# Altium integrated library Integrated_Circuits.IntLib: 13 symbols
Pins are listed as number, name and electrical type; pins without a type are passive.

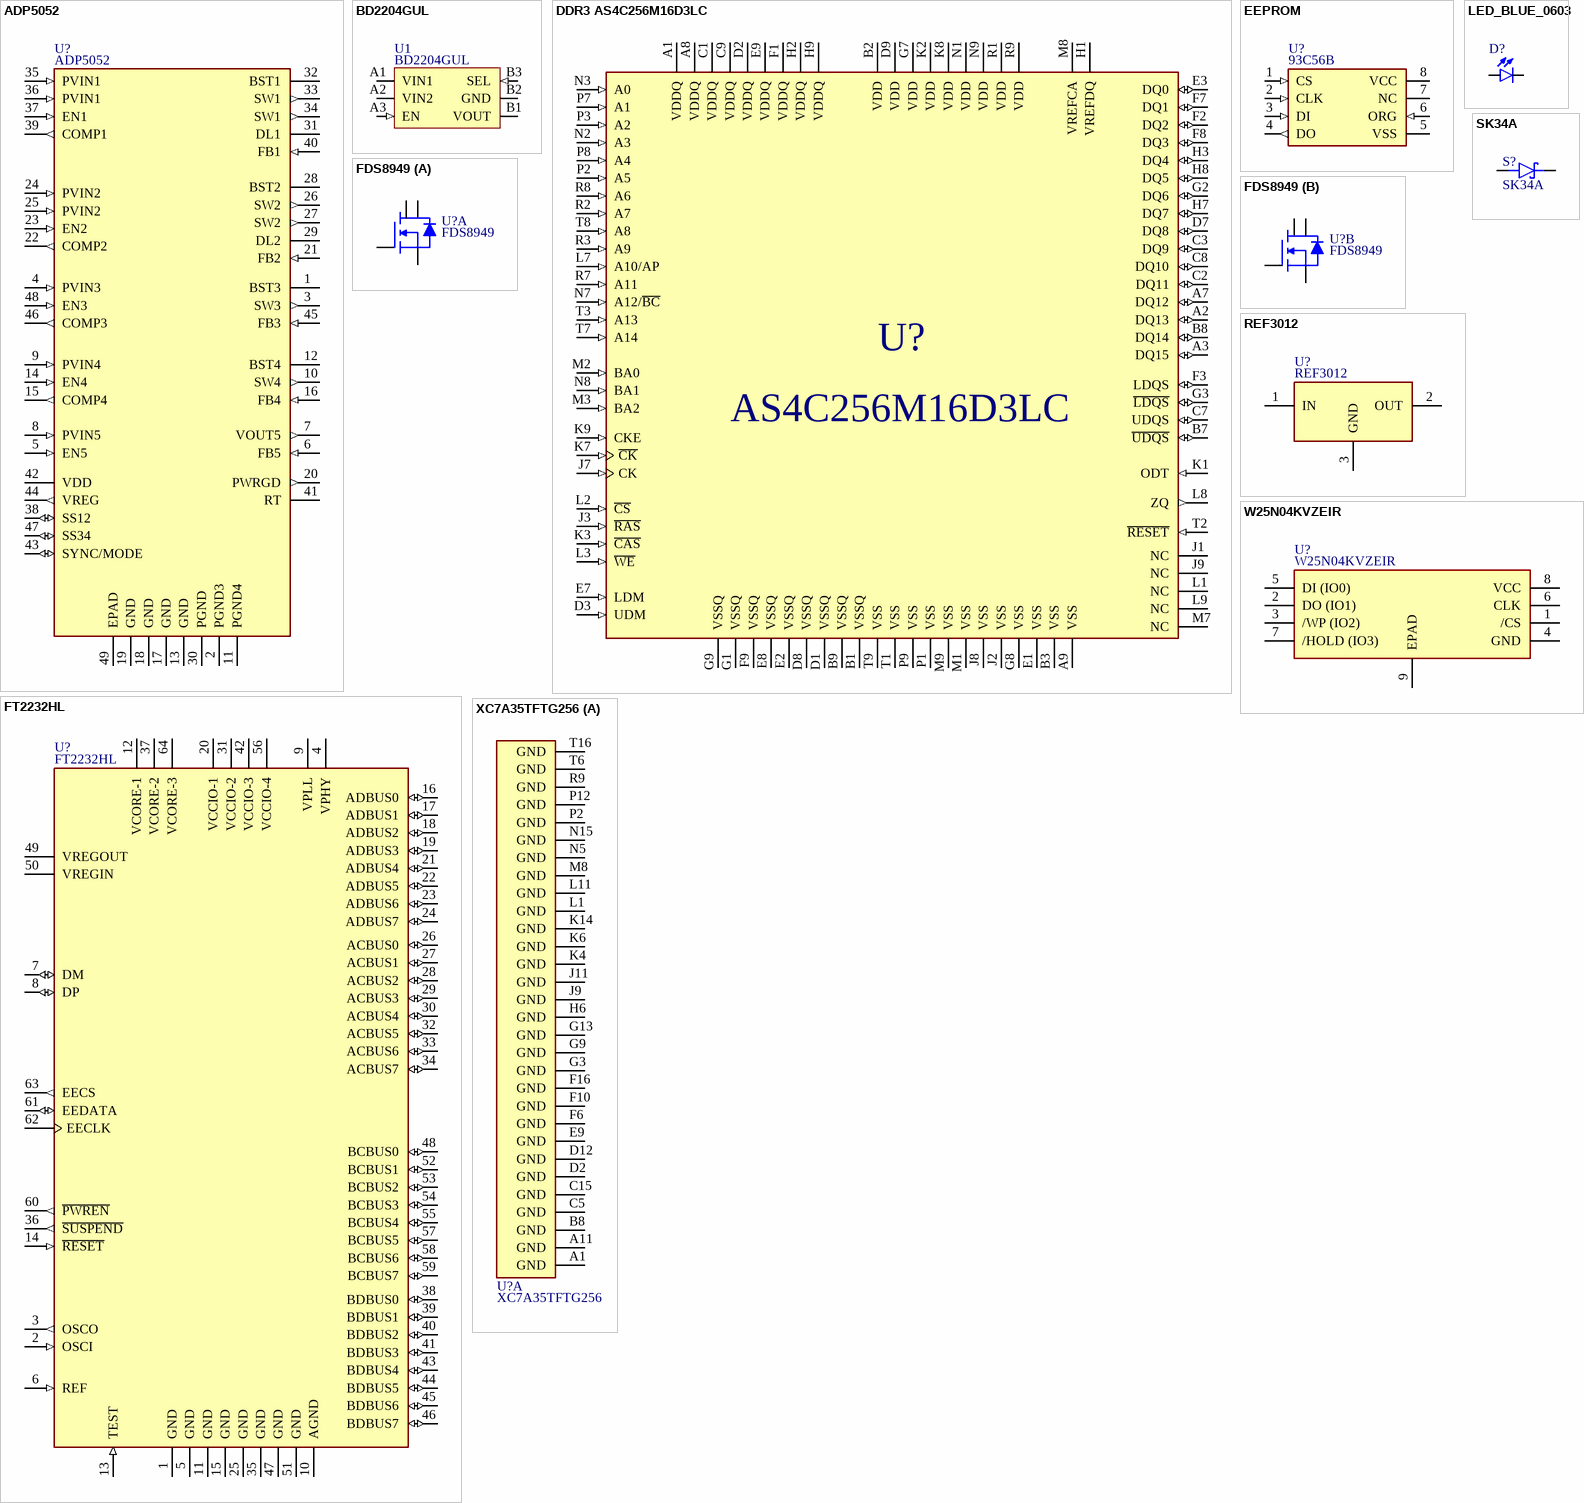
[diagram p0: symbols ADP5052 to XC7A35TFTG256]

## ADP5052
designator U?
5-Channel Integrated Power Solution with Quad / Buck Regulators and 200 mA LDO Regulator; ComponentLink1Description: DataSheet; ComponentLink1URL: https://www.analog.com/media/en/technical-documentation/data-sheets/adp5052.pdf
footprint LFCSP-48
pins: 1 BST3, 2 PGND3 (power), 3 SW3 (out), 4 PVIN3 (in), 5 EN5 (in), 6 FB5 (in), 7 VOUT5 (out), 8 PVIN5 (in), 9 PVIN4 (in), 10 SW4 (out), 11 PGND4 (power), 12 BST4, 13 GND (power), 14 EN4 (in), 15 COMP4 (out), 16 FB4 (in), 17 GND (power), 18 GND (power), 19 GND (power), 20 PWRGD (out), 21 FB2 (in), 22 COMP2 (out), 23 EN2 (in), 24 PVIN2 (in), 25 PVIN2 (in), 26 SW2 (out), 27 SW2 (out), 28 BST2, 29 DL2, 30 PGND (power), 31 DL1, 32 BST1, 33 SW1 (out), 34 SW1 (out), 35 PVIN1 (in), 36 PVIN1 (in), 37 EN1 (in), 38 SS12 (io), 39 COMP1 (out), 40 FB1 (in), 41 RT, 42 VDD (power), 43 SYNC/MODE (io), 44 VREG (out), 45 FB3 (in), 46 COMP3 (out), 47 SS34 (io), 48 EN3 (in), 49 EPAD (power)

## BD2204GUL
designator U1
Power Supply Selector Switch IC for SD Cards; Manufacturer: ROHM; PartNumber: BD2204GUL; Package: UFBGA-6; ComponentLink1Description: Productrpage; ComponentLink1URL: https://www.rohm.com/products/power-management/power-management-switch-ics/load-switch-ics/bd2204gul-product; ComponentLink2Description: DataSheet; ComponentLink2URL: https://fscdn.rohm.com/en/products/databook/datasheet/ic/power/power_switch/bd2204gul-e.pdf; ComponentLink3Description: DigiKey; ComponentLink3URL: https://www.digikey.com/en/products/detail/rohm-semiconductor/BD2204GUL-E2/5210337
footprint UFBGA-6 (VCSP50L1)
pins: A1 VIN1 (power), A2 VIN2 (power), A3 EN (in), B1 VOUT (power), B2 GND, B3 SEL (in)

## DDR3 AS4C256M16D3LC
designator U?, comment AS4C256M16D3LC
256M x 16 bit DDR3L Synchronous DRAM (SDRAM); ComponentLink1Description: DataSheet; ComponentLink1URL: https://www.alliancememory.com/wp-content/uploads/pdf/ddr3/AllianceMemory_4G_DDR3L_AS4C256M16D3LC_March2020_Rev1.0.pdf
footprint FBGA-96
pins: A1 VDDQ (power), A2 DQ13 (io), A3 DQ15 (io), A7 DQ12 (io), A8 VDDQ (power), A9 VSS (power), B1 VSSQ (power), B2 VDD (power), B3 VSS (power), B7 ~{UDQS} (io), B8 DQ14 (io), B9 VSSQ (power), C1 VDDQ (power), C2 DQ11 (io), C3 DQ9 (io), C7 UDQS (io), C8 DQ10 (io), C9 VDDQ (power), D1 VSSQ (power), D2 VDDQ (power), D3 UDM (in), D7 DQ8 (io), D8 VSSQ (power), D9 VDD (power), E1 VSS (power), E2 VSSQ (power), E3 DQ0 (io), E7 LDM (in), E8 VSSQ (power), E9 VDDQ (power), F1 VDDQ (power), F2 DQ2 (io), F3 LDQS (io), F7 DQ1 (io), F8 DQ3 (io), F9 VSSQ (power), G1 VSSQ (power), G2 DQ6 (io), G3 ~{LDQS} (io), G7 VDD (power), G8 VSS (power), G9 VSSQ (power), H1 VREFDQ (power), H2 VDDQ (power), H3 DQ4 (io), H7 DQ7 (io), H8 DQ5 (io), H9 VDDQ (power), J1 NC, J2 VSS (power), J3 ~{RAS} (in), J7 CK (in), J8 VSS (power), J9 NC, K1 ODT (in), K2 VDD (power), K3 ~{CAS} (in), K7 ~{CK} (in), K8 VDD (power), K9 CKE (in), L1 NC, L2 ~{CS} (in), L3 ~{WE} (in), L7 A10/AP (in), L8 ZQ (out), L9 NC, M1 VSS (power), M2 BA0 (in), M3 BA2 (in), M7 NC, M8 VREFCA (power), M9 VSS (power), N1 VDD (power), N2 A3 (in), N3 A0 (in), N7 A12/~{BC} (in), N8 BA1 (in), N9 VDD (power), P1 VSS (power), P2 A5 (in), P3 A2 (in), P7 A1 (in), P8 A4 (in), P9 VSS (power), R1 VDD (power), R2 A7 (in), R3 A9 (in), R7 A11 (in), R8 A6 (in), R9 VDD (power), T1 VSS (power), T2 ~{RESET} (in), T3 A13 (in), T7 A14 (in), T8 A8 (in), T9 VSS (power)

## EEPROM
designator U?, comment 93C56B
2K Microwire Compatible Serial EEPROM; ComponentLink1Description: DataSheet; ComponentLink1URL: https://www.snapeda.com/parts/93C56BT-I/MC/Microchip/datasheet/
footprint DFN-8
pins: 1 CS (in), 2 CLK (in), 3 DI (in), 4 DO (out), 5 VSS (power), 6 ORG (in), 7 NC, 8 VCC (power)

## FDS8949
designator U?
MOSFET 2N-CH 40V 6A 8SOIC
footprint SOIC8
part A pins: 1 S1, 2 G1, 7 D1, 8 D1
part B pins: 3 S2, 4 G2, 5 D2, 6 D2

## FT2232HL
designator U?
Dual High Speed USB to Multipurpose UART/FIFO IC; Manufacturer: FTDI Chip; ComponentLink1Description: DataSheet; ComponentLink1URL: https://ftdichip.com/wp-content/uploads/2020/07/DS_FT2232H.pdf; ComponentLink2Description: DigiKey; ComponentLink2URL: https://www.digikey.com/en/products/detail/ftdi-future-technology-devices-international-ltd/FT2232HL-REEL/1986053; Package: LQFP-64; PartNumber: FT2232HL
footprint LQPF-64
pins: 1 GND (power), 2 OSCI (in), 3 OSCO (out), 4 VPHY (power), 5 GND (power), 6 REF (in), 7 DM (io), 8 DP (io), 9 VPLL (power), 10 AGND (power), 11 GND (power), 12 VCORE-1 (power), 13 TEST (in), 14 ~{RESET} (in), 15 GND (power), 16 ADBUS0 (io), 17 ADBUS1 (io), 18 ADBUS2 (io), 19 ADBUS3 (io), 20 VCCIO-1 (power), 21 ADBUS4 (io), 22 ADBUS5 (io), 23 ADBUS6 (io), 24 ADBUS7 (io), 25 GND (power), 26 ACBUS0 (io), 27 ACBUS1 (io), 28 ACBUS2 (io), 29 ACBUS3 (io), 30 ACBUS4 (io), 31 VCCIO-2 (power), 32 ACBUS5 (io), 33 ACBUS6 (io), 34 ACBUS7 (io), 35 GND (power), 36 ~{SUSPEND} (out), 37 VCORE-2 (power), 38 BDBUS0 (io), 39 BDBUS1 (io), 40 BDBUS2 (io), 41 BDBUS3 (io), 42 VCCIO-3 (power), 43 BDBUS4 (io), 44 BDBUS5 (io), 45 BDBUS6 (io), 46 BDBUS7 (io), 47 GND (power), 48 BCBUS0 (io), 49 VREGOUT (power), 50 VREGIN (power), 51 GND (power), 52 BCBUS1 (io), 53 BCBUS2 (io), 54 BCBUS3 (io), 55 BCBUS4 (io), 56 VCCIO-4 (power), 57 BCBUS5 (io), 58 BCBUS6 (io), 59 BCBUS7 (io), 60 ~{PWREN} (out), 61 EEDATA (io), 62 EECLK, 63 EECS (out), 64 VCORE-3 (power)

## LED_BLUE_0603
designator D?, comment 597-3305-607F  (value not drawn)
LED blue diffused 0603 SMD; ComponentLink1Description: DataSheet; ComponentLink1URL: https://www.we-online.com/components/products/datasheet/150060BS55040.pdf; ComponentLink2Description: DigiKey; ComponentLink2URL: https://www.digikey.com/es/products/detail/w%C3%BCrth-elektronik/150060BS55040/8557178?s=N4IgTCBcDaIDoBcCMBWADGgbGgQgZRXQBY0QBdAXyA; Colour: Blue; Size: 0603
footprint 0603_LED (Led 0805)
pins: A, C

## REF3012
designator U?
Voltage Reference 1.5V; ComponentLink1Description: DataSheet; ComponentLink1URL: https://www.ti.com/lit/ds/symlink/ref3012.pdf?ts=1708128926119
footprint SOT23-3
pins: 1 IN (power), 2 OUT (power), 3 GND

## SK34A
designator S?
Diode schottky 40V 3A; Manufacturer: SMC Diode Solutions; Forward Voltage Drop: 0.63; ComponentLink1Description: DigiKey; ComponentLink1URL: https://www.digikey.com/en/products/detail/smc-diode-solutions/SK34A/6022681; Peak Reverse Voltage: 40V; Forward Current: 3A; ComponentLink2Description: DataSheet; ComponentLink2URL: https://www.smc-diodes.com/propdf/SK34A%20N0103%20REV.C.pdf; Package: SMA-2; PartNumber: SK34A
footprint Diode SMA-2
pins: A, C K

## W25N04KVZEIR
designator U?
QSPINAND 4G-BIT FLASH MEMORY WITH DUAL/QUAD SPI BUFFER READ & SEQUENTIAL READ; ComponentLink1Description: Product Brief; ComponentLink1URL: https://www.winbond.com/hq/product/code-storage-flash-memory/qspinand-flash/?__locale=en&partNo=W25N04KV
footprint WSON-8
pins: 1 /CS, 2 DO (IO1), 3 /WP (IO2), 4 GND (power), 5 DI (IO0), 6 CLK, 7 /HOLD (IO3), 8 VCC (power), 9 EPAD

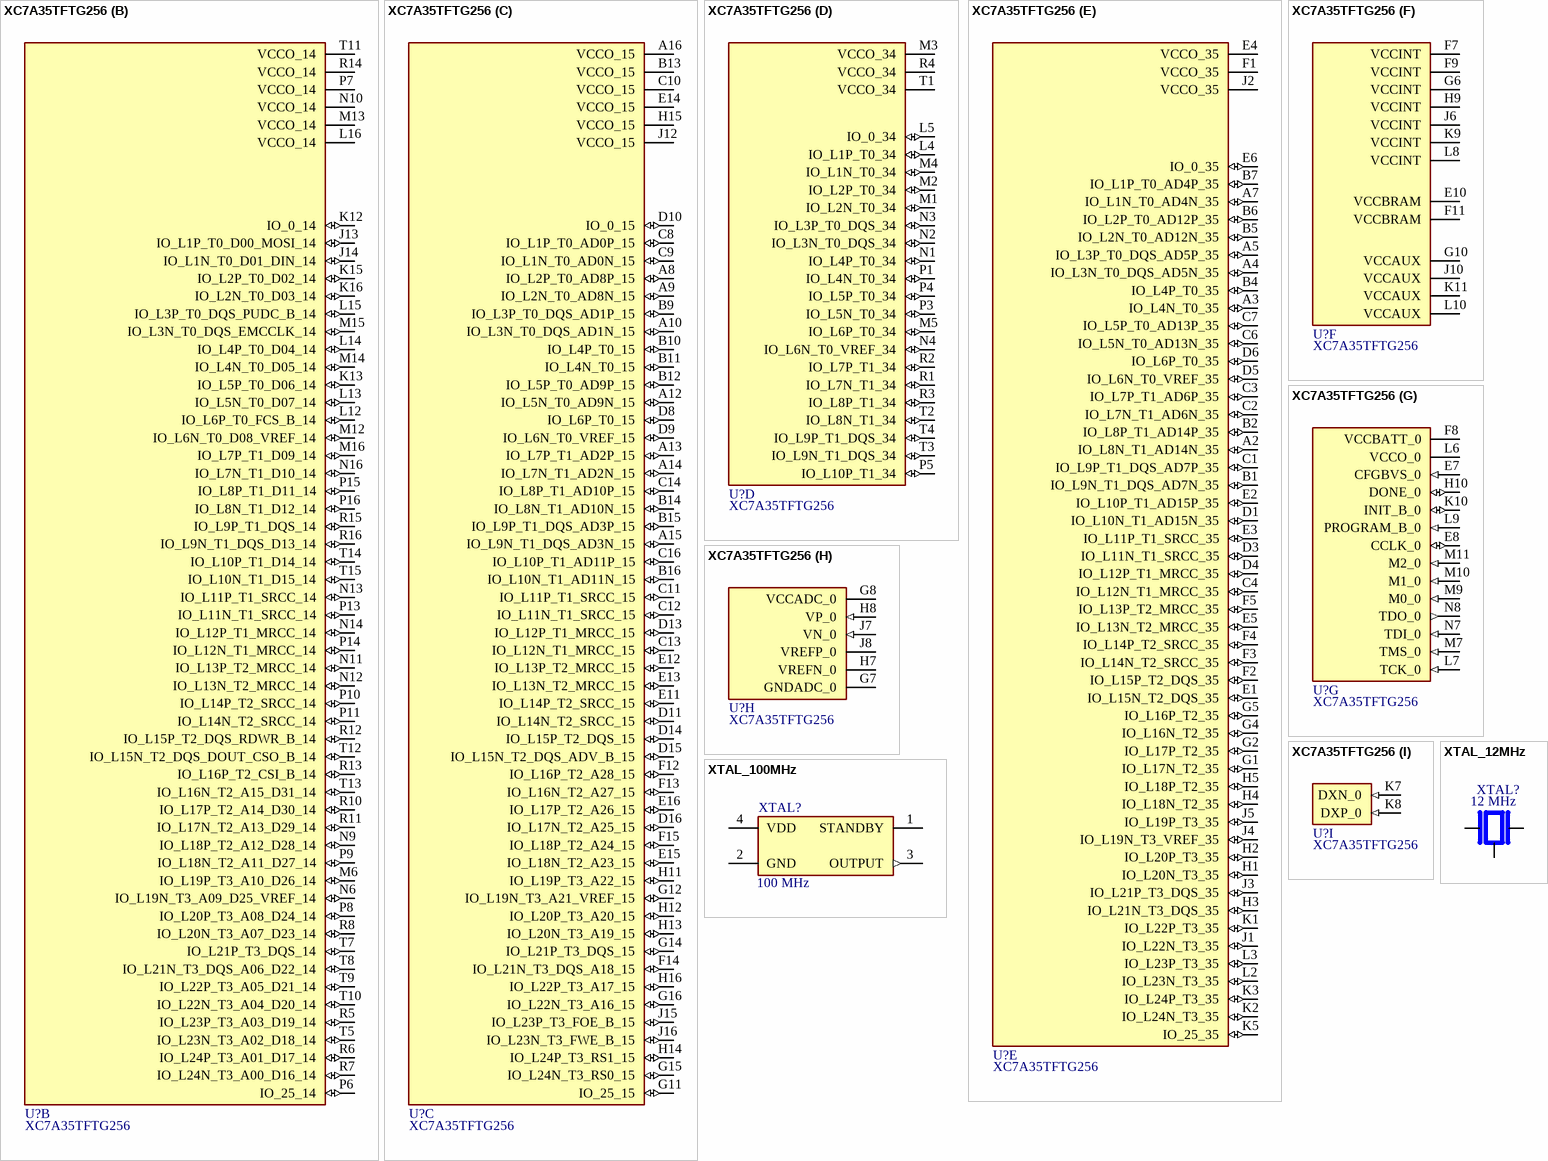
[diagram p1: symbols XC7A35TFTG256 to XTAL_100MHz]

## XC7A35TFTG256
designator U?
FPGA
footprint BGA-256
part A pins: A1 GND (power), A11 GND (power), B8 GND (power), C5 GND (power), C15 GND (power), D2 GND (power), D12 GND (power), E9 GND (power), F6 GND (power), F10 GND (power), F16 GND (power), G3 GND (power), G9 GND (power), G13 GND (power), H6 GND (power), J9 GND (power), J11 GND (power), K4 GND (power), K6 GND (power), K14 GND (power), L1 GND (power), L11 GND (power), M8 GND (power), N5 GND (power), N15 GND (power), P2 GND (power), P12 GND (power), R9 GND (power), T6 GND (power), T16 GND (power)
part B pins: J13 IO_L1P_T0_D00_MOSI_14 (io), J14 IO_L1N_T0_D01_DIN_14 (io), K12 IO_0_14 (io), K13 IO_L5P_T0_D06_14 (io), K15 IO_L2P_T0_D02_14 (io), K16 IO_L2N_T0_D03_14 (io), L12 IO_L6P_T0_FCS_B_14 (io), L13 IO_L5N_T0_D07_14 (io), L14 IO_L4P_T0_D04_14 (io), L15 IO_L3P_T0_DQS_PUDC_B_14 (io), L16 VCCO_14 (power), M6 IO_L19P_T3_A10_D26_14 (io), M12 IO_L6N_T0_D08_VREF_14 (io), M13 VCCO_14 (power), M14 IO_L4N_T0_D05_14 (io), M15 IO_L3N_T0_DQS_EMCCLK_14 (io), M16 IO_L7P_T1_D09_14 (io), N6 IO_L19N_T3_A09_D25_VREF_14 (io), N9 IO_L18P_T2_A12_D28_14 (io), N10 VCCO_14 (power), N11 IO_L13P_T2_MRCC_14 (io), N12 IO_L13N_T2_MRCC_14 (io), N13 IO_L11P_T1_SRCC_14 (io), N14 IO_L12P_T1_MRCC_14 (io), N16 IO_L7N_T1_D10_14 (io), P6 IO_25_14 (io), P7 VCCO_14 (power), P8 IO_L20P_T3_A08_D24_14 (io), P9 IO_L18N_T2_A11_D27_14 (io), P10 IO_L14P_T2_SRCC_14 (io), P11 IO_L14N_T2_SRCC_14 (io), P13 IO_L11N_T1_SRCC_14 (io), P14 IO_L12N_T1_MRCC_14 (io), P15 IO_L8P_T1_D11_14 (io), P16 IO_L8N_T1_D12_14 (io), R5 IO_L23P_T3_A03_D19_14 (io), R6 IO_L24P_T3_A01_D17_14 (io), R7 IO_L24N_T3_A00_D16_14 (io), R8 IO_L20N_T3_A07_D23_14 (io), R10 IO_L17P_T2_A14_D30_14 (io), R11 IO_L17N_T2_A13_D29_14 (io), R12 IO_L15P_T2_DQS_RDWR_B_14 (io), R13 IO_L16P_T2_CSI_B_14 (io), R14 VCCO_14 (power), R15 IO_L9P_T1_DQS_14 (io), R16 IO_L9N_T1_DQS_D13_14 (io), T5 IO_L23N_T3_A02_D18_14 (io), T7 IO_L21P_T3_DQS_14 (io), T8 IO_L21N_T3_DQS_A06_D22_14 (io), T9 IO_L22P_T3_A05_D21_14 (io), T10 IO_L22N_T3_A04_D20_14 (io), T11 VCCO_14 (power), T12 IO_L15N_T2_DQS_DOUT_CSO_B_14 (io), T13 IO_L16N_T2_A15_D31_14 (io), T14 IO_L10P_T1_D14_14 (io), T15 IO_L10N_T1_D15_14 (io)
part C pins: A8 IO_L2P_T0_AD8P_15 (io), A9 IO_L2N_T0_AD8N_15 (io), A10 IO_L3N_T0_DQS_AD1N_15 (io), A12 IO_L5N_T0_AD9N_15 (io), A13 IO_L7P_T1_AD2P_15 (io), A14 IO_L7N_T1_AD2N_15 (io), A15 IO_L9N_T1_DQS_AD3N_15 (io), A16 VCCO_15 (power), B9 IO_L3P_T0_DQS_AD1P_15 (io), B10 IO_L4P_T0_15 (io), B11 IO_L4N_T0_15 (io), B12 IO_L5P_T0_AD9P_15 (io), B13 VCCO_15 (power), B14 IO_L8N_T1_AD10N_15 (io), B15 IO_L9P_T1_DQS_AD3P_15 (io), B16 IO_L10N_T1_AD11N_15 (io), C8 IO_L1P_T0_AD0P_15 (io), C9 IO_L1N_T0_AD0N_15 (io), C10 VCCO_15 (power), C11 IO_L11P_T1_SRCC_15 (io), C12 IO_L11N_T1_SRCC_15 (io), C13 IO_L12N_T1_MRCC_15 (io), C14 IO_L8P_T1_AD10P_15 (io), C16 IO_L10P_T1_AD11P_15 (io), D8 IO_L6P_T0_15 (io), D9 IO_L6N_T0_VREF_15 (io), D10 IO_0_15 (io), D11 IO_L14N_T2_SRCC_15 (io), D13 IO_L12P_T1_MRCC_15 (io), D14 IO_L15P_T2_DQS_15 (io), D15 IO_L15N_T2_DQS_ADV_B_15 (io), D16 IO_L17N_T2_A25_15 (io), E11 IO_L14P_T2_SRCC_15 (io), E12 IO_L13P_T2_MRCC_15 (io), E13 IO_L13N_T2_MRCC_15 (io), E14 VCCO_15 (power), E15 IO_L18N_T2_A23_15 (io), E16 IO_L17P_T2_A26_15 (io), F12 IO_L16P_T2_A28_15 (io), F13 IO_L16N_T2_A27_15 (io), F14 IO_L21N_T3_DQS_A18_15 (io), F15 IO_L18P_T2_A24_15 (io), G11 IO_25_15 (io), G12 IO_L19N_T3_A21_VREF_15 (io), G14 IO_L21P_T3_DQS_15 (io), G15 IO_L24N_T3_RS0_15 (io), G16 IO_L22N_T3_A16_15 (io), H11 IO_L19P_T3_A22_15 (io), H12 IO_L20P_T3_A20_15 (io), H13 IO_L20N_T3_A19_15 (io), H14 IO_L24P_T3_RS1_15 (io), H15 VCCO_15 (power), H16 IO_L22P_T3_A17_15 (io), J12 VCCO_15 (power), J15 IO_L23P_T3_FOE_B_15 (io), J16 IO_L23N_T3_FWE_B_15 (io)
part D pins: L4 IO_L1P_T0_34 (io), L5 IO_0_34 (io), M1 IO_L2N_T0_34 (io), M2 IO_L2P_T0_34 (io), M3 VCCO_34 (power), M4 IO_L1N_T0_34 (io), M5 IO_L6P_T0_34 (io), N1 IO_L4P_T0_34 (io), N2 IO_L3N_T0_DQS_34 (io), N3 IO_L3P_T0_DQS_34 (io), N4 IO_L6N_T0_VREF_34 (io), P1 IO_L4N_T0_34 (io), P3 IO_L5N_T0_34 (io), P4 IO_L5P_T0_34 (io), P5 IO_L10P_T1_34 (io), R1 IO_L7N_T1_34 (io), R2 IO_L7P_T1_34 (io), R3 IO_L8P_T1_34 (io), R4 VCCO_34 (power), T1 VCCO_34 (power), T2 IO_L8N_T1_34 (io), T3 IO_L9N_T1_DQS_34 (io), T4 IO_L9P_T1_DQS_34 (io)
part E pins: A2 IO_L8N_T1_AD14N_35 (io), A3 IO_L4N_T0_35 (io), A4 IO_L3N_T0_DQS_AD5N_35 (io), A5 IO_L3P_T0_DQS_AD5P_35 (io), A7 IO_L1N_T0_AD4N_35 (io), B1 IO_L9N_T1_DQS_AD7N_35 (io), B2 IO_L8P_T1_AD14P_35 (io), B4 IO_L4P_T0_35 (io), B5 IO_L2N_T0_AD12N_35 (io), B6 IO_L2P_T0_AD12P_35 (io), B7 IO_L1P_T0_AD4P_35 (io), C1 IO_L9P_T1_DQS_AD7P_35 (io), C2 IO_L7N_T1_AD6N_35 (io), C3 IO_L7P_T1_AD6P_35 (io), C4 IO_L12N_T1_MRCC_35 (io), C6 IO_L5N_T0_AD13N_35 (io), C7 IO_L5P_T0_AD13P_35 (io), D1 IO_L10N_T1_AD15N_35 (io), D3 IO_L11N_T1_SRCC_35 (io), D4 IO_L12P_T1_MRCC_35 (io), D5 IO_L6N_T0_VREF_35 (io), D6 IO_L6P_T0_35 (io), E1 IO_L15N_T2_DQS_35 (io), E2 IO_L10P_T1_AD15P_35 (io), E3 IO_L11P_T1_SRCC_35 (io), E4 VCCO_35 (power), E5 IO_L13N_T2_MRCC_35 (io), E6 IO_0_35 (io), F1 VCCO_35 (power), F2 IO_L15P_T2_DQS_35 (io), F3 IO_L14N_T2_SRCC_35 (io), F4 IO_L14P_T2_SRCC_35 (io), F5 IO_L13P_T2_MRCC_35 (io), G1 IO_L17N_T2_35 (io), G2 IO_L17P_T2_35 (io), G4 IO_L16N_T2_35 (io), G5 IO_L16P_T2_35 (io), H1 IO_L20N_T3_35 (io), H2 IO_L20P_T3_35 (io), H3 IO_L21N_T3_DQS_35 (io), H4 IO_L18N_T2_35 (io), H5 IO_L18P_T2_35 (io), J1 IO_L22N_T3_35 (io), J2 VCCO_35 (power), J3 IO_L21P_T3_DQS_35 (io), J4 IO_L19N_T3_VREF_35 (io), J5 IO_L19P_T3_35 (io), K1 IO_L22P_T3_35 (io), K2 IO_L24N_T3_35 (io), K3 IO_L24P_T3_35 (io), K5 IO_25_35 (io), L2 IO_L23N_T3_35 (io), L3 IO_L23P_T3_35 (io)
part F pins: E10 VCCBRAM (power), F7 VCCINT (power), F9 VCCINT (power), F11 VCCBRAM (power), G6 VCCINT (power), G10 VCCAUX (power), H9 VCCINT (power), J6 VCCINT (power), J10 VCCAUX (power), K9 VCCINT (power), K11 VCCAUX (power), L8 VCCINT (power), L10 VCCAUX (power)
part G pins: E7 CFGBVS_0 (in), E8 CCLK_0 (io), F8 VCCBATT_0 (power), H10 DONE_0 (io), K10 INIT_B_0 (io), L6 VCCO_0 (power), L7 TCK_0 (in), L9 PROGRAM_B_0 (in), M7 TMS_0 (in), M9 M0_0 (in), M10 M1_0 (in), M11 M2_0 (in), N7 TDI_0 (in), N8 TDO_0 (out)
part H pins: G7 GNDADC_0 (power), G8 VCCADC_0 (power), H7 VREFN_0 (power), H8 VP_0 (in), J7 VN_0 (in), J8 VREFP_0 (power)
part I pins: K7 DXN_0 (in), K8 DXP_0 (in)

## XTAL_12MHz
designator XTAL?, comment 12 MHz
Crystal 12 MHz; Manufacturer: Abracom; ComponentLink1Description: DataDheet; ComponentLink1URL: https://www.snapeda.com/parts/ABM8G-16.000MHZ-B4Y-T/Abracon/datasheet/; Series: ABM8G; Frequency: 12 MHz
footprint XTAL_ABM8G (XTAL)
pins: 1, 2 (power), 3

## XTAL_100MHz
designator XTAL?, comment Frequency: 100 MHz  (hidden comment: ASFLMB-100.000MHZ-LC-T)
Crystal 100 MHz; Manufacturer: Abracom; ComponentLink1Description: DataSheet; ComponentLink1URL: https://www.snapeda.com/parts/ASFLMB-100.000MHZ-LC-T/Abracon/datasheet/
footprint XTAL_ASFLMB
pins: 1 STANDBY, 2 GND (power), 3 OUTPUT (out), 4 VDD (power)